# Altium footprint library 3PhaseMotorDriver.PcbLib: 26 footprints (part 2 of 2)
Each footprint in its own frame and in the unit in brackets; x right, y up, seen from the top. Pads: shape width x height; smd on the part's side, far side on the other; paste and mask are expansions set on the pad; w line width, h text height; cw(c..) or ccw(c..) is an arc to the next point about the centre after c.
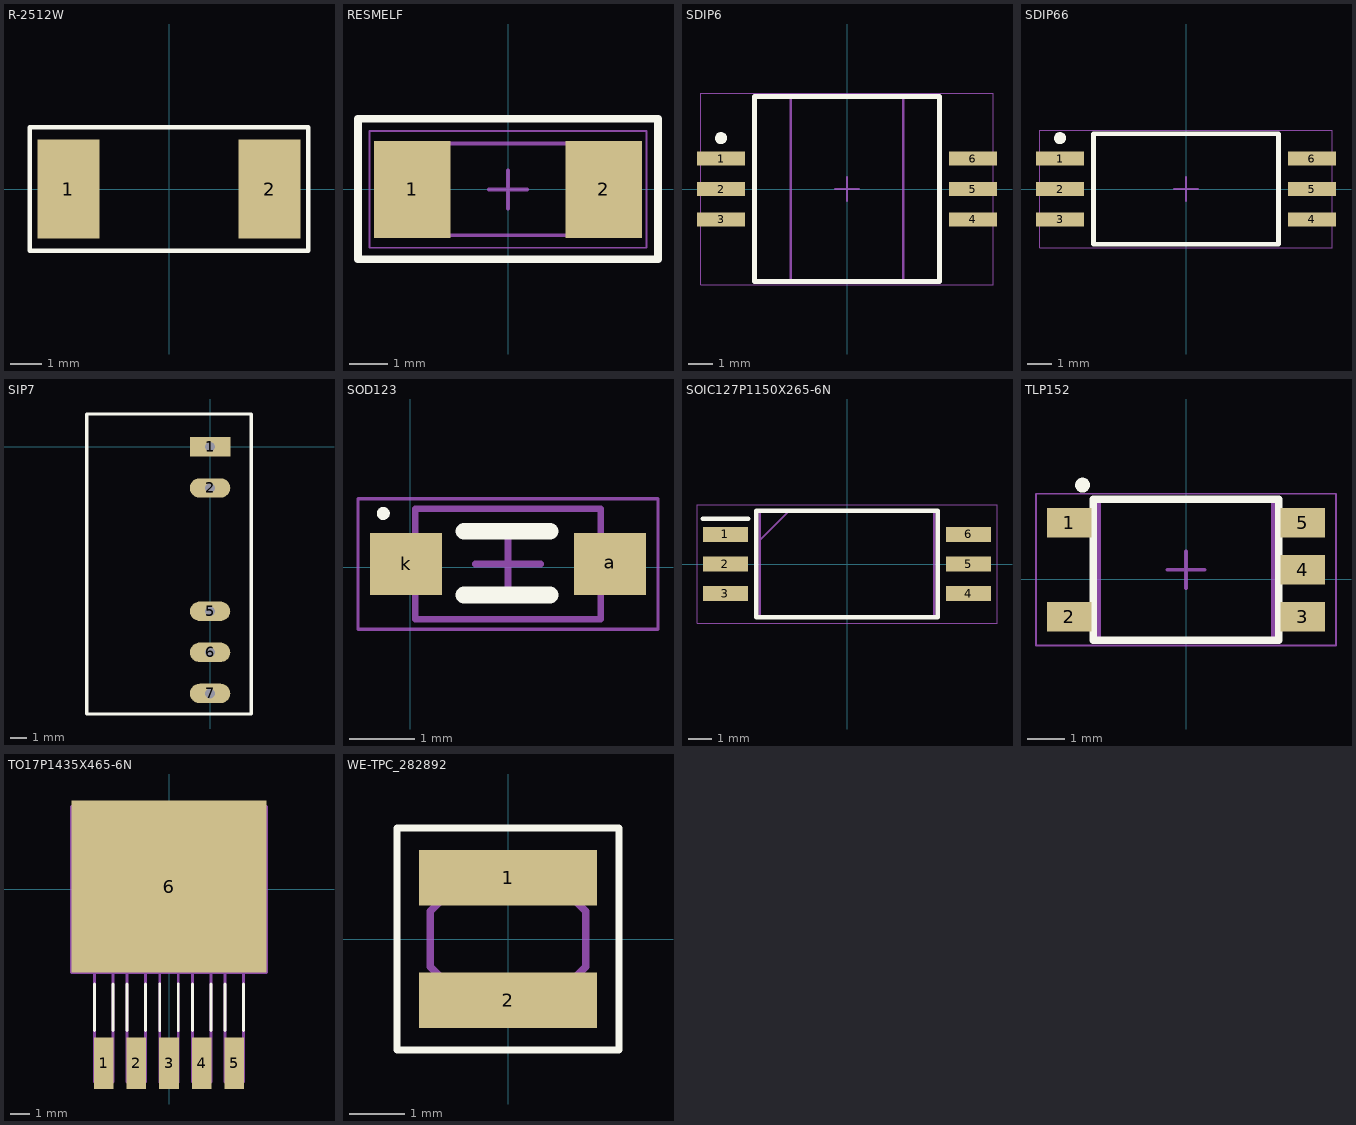
[diagram p1: the footprints below, top view; thin cyan lines are the x and y axes]

## R-2512W [mm] "resistor 2512 wave soldering"
pads (2):
  rect 2x3.2 smd: 1(-3.25,0) 2(3.25,0)
Top Overlay:
  lines w0.152: -4.5,-2 2.15,-2 4.5,-2 4.5,2 2.15,2 -4.5,2 -4.5,-2
3D body "res2512.stp": height 0.55, standoff 0, extent -3.15,-1.55 3.15,1.55

## RESMELF [mm] "MELF Resistor, 2-Leads, Body 5.85x2.30mm, IPC Medium Density"
height 2.4
pads (2):
  rect 2x2.55 smd: 1(-2.5,0) 2(2.5,0)
Top Overlay:
  lines w0.2: -3.925,-1.825 -3.925,1.85 -1.572,1.85 -0.191,1.85 2.082,1.85 ; -3.9,-1.825 -1.2,-1.825 3.925,-1.825 3.925,1.85 ; 2.082,1.85 3.925,1.85 ; 2.082,1.85 3.925,1.85
Top Assembly:
  lines w0.1: -2.95,-1.2 -2.95,1.2 2.95,1.2 2.95,-1.2 -2.95,-1.2
Top Courtyard:
  lines w0.05: -3.625,-1.525 -3.625,1.525 3.625,1.525 3.625,-1.525 -3.625,-1.525
  lines w0.1: -0.5,0 0.5,0 ; 0,-0.5 0,0.5
3D body: height 2.39, standoff 0, extent -2.95,-1.2 -2.4,1.195
3D body: height 2.39, standoff 0, extent 2.4,-1.2 2.95,1.195
3D body "User Library-MMB0207_102K.STEP": height 2.4, standoff 0, extent -2.9,-1.2 2.9,1.2

## SDIP6 [mm]
height 2.65
pads (6):
  rect 2x0.6 smd: 1(-5.25,1.27) 2(-5.25,0) 3(-5.25,-1.27) 4(5.25,-1.27) 5(5.25,0) 6(5.25,1.27)
Top Overlay:
  circle w0.25: c-5.25,2.12 r0.125
  lines w0.2: -3.85,-3.85 -3.85,3.85 3.85,3.85 3.85,-3.85 -3.85,-3.85
Top Assembly:
  lines w0.1: -2.35,-3.85 2.35,-3.85 2.35,3.85 -2.35,3.85 -2.35,-3.85
Top Courtyard:
  lines w0.05: -6.1,-4 6.1,-4 6.1,4 -6.1,4 -6.1,-4
  lines w0.1: -0.5,0 0.5,0 ; 0,-0.5 0,0.5
3D body: height 2.65, standoff 0, extent -2.35,-3.85 2.35,3.85

## SDIP66 [mm]
height 2.65
pads (6):
  rect 2x0.6 smd: 1(-5.25,1.27) 2(-5.25,0) 3(-5.25,-1.27) 4(5.25,-1.27) 5(5.25,0) 6(5.25,1.27)
Top Overlay:
  circle w0.25: c-5.25,2.12 r0.125
  lines w0.2: -3.85,-2.3 3.85,-2.3 3.85,2.3 -3.85,2.3 -3.85,-2.3
Top Assembly:
  lines w0.1: -3.85,-2.3 -3.85,2.3 3.85,2.3 3.85,-2.3 -3.85,-2.3
Top Courtyard:
  lines w0.05: -6.1,-2.45 -6.1,2.45 6.1,2.45 6.1,-2.45 -6.1,-2.45
  lines w0.1: -0.5,0 0.5,0 ; 0,-0.5 0,0.5
3D body: height 2.65, standoff 0, extent -3.85,-2.3 3.85,2.3

## SIP7 [mm]
pads (5):
  rect 2.5x1.2 hole 0.6: 1(0,0)
  oval 2.5x1.2 hole 0.6: 2(0,-2.54) 5(0,-10.16) 6(0,-12.7) 7(0,-15.24)
Top Overlay:
  lines w0.2: -7.616,-16.51 2.54,-16.51 2.54,2.032 -7.616,2.032 -7.616,-16.51
3D body "mps_dcdc_mgj2d_sc_a.step": height 11.66, standoff -4.94, extent -7.239,-17.243 2.581,2.257

## SOD123 [mm]
height 1.35
pads (2):
  rect 1.1x0.95 smd: a(3.063,0.05) k(-0.062,0.05)
Top Overlay:
  circle w0.1: c-0.412,0.825 r0.05
  lines w0.254: 0.825,-0.425 2.15,-0.425 ; 0.825,0.55 2.15,0.55
Top Assembly:
  lines w0.1: 0.075,-0.8 2.925,-0.8 2.925,0.9 0.075,0.9 0.075,-0.8
Top Courtyard:
  lines w0.05: -0.8,-0.95 3.8,-0.95 3.8,1.05 -0.8,1.05 -0.8,-0.95
  lines w0.1: 1,0.05 2,0.05 ; 1.5,-0.45 1.5,0.55
3D body "CircuitWorks-SOD123.STEP": height 1.28, standoff 0.01, extent -0.375,-0.775 3.325,0.825

## SOIC127P1150X265-6N [mm]
pads (6):
  rect 1.95x0.65 smd: 1(-5.225,1.27) 2(-5.225,0) 3(-5.225,-1.27) 4(5.225,-1.27) 5(5.225,0) 6(5.225,1.27)
Top Overlay:
  lines w0.2: -6.2,1.945 -4.25,1.945 ; -3.9,-2.29 3.9,-2.29 3.9,2.29 -3.9,2.29 -3.9,-2.29
Mechanical 13:
  lines w0.1: -3.75,1.02 -2.48,2.29 ; -3.75,-2.29 3.75,-2.29 3.75,2.29 -3.75,2.29 -3.75,-2.29
Mechanical 15:
  lines w0.05: -6.45,-2.54 6.45,-2.54 6.45,2.54 -6.45,2.54 -6.45,-2.54
3D body "Si8261ACD-C-IS.stp": height 2.65, standoff 0, extent -5.75,-2.29 5.75,2.29

## TLP152 [mm] "SOTFL, 5-Leads, Body 3.75x7.20mm, Pitch 1.27mm, IPC Medium Density"
height 2.2
pads (5):
  rect 1.2x0.8 smd: 1(-3.15,1.524) 2(-3.15,-1.016) 3(3.15,-1.016) 4(3.15,0.254) 5(3.15,1.524)
Top Overlay:
  lines w0.2: -2.5,-1.646 -2.5,2.154 2.5,2.154 2.5,-1.646 -2.5,-1.646
  lines w0.25: -2.72,2.538 cw(c-2.794,2.54) -2.72,2.547
Top Assembly:
  lines w0.1: -2.35,-1.646 2.35,-1.646 2.35,2.154 -2.35,2.154 -2.35,-1.646
Top Courtyard:
  lines w0.05: -4.05,-1.796 4.05,-1.796 4.05,2.304 -4.05,2.304 -4.05,-1.796
  lines w0.1: -0.5,0.254 0.5,0.254 ; 0,-0.246 0,0.754
3D body "User Library-TLP-152-1.STEP": height 2.11, standoff 0.01, extent -3.393,-1.651 3.383,2.149

## TO17P1435X465-6N [mil]
pads (6):
  rect 40x106 smd: 1(-134,-356) 2(-67,-356) 3(0,-356) 4(67,-356) 5(134,-356)
  rect 400x352 smd: 6(0,6)
Top Overlay:
  lines w6: -153,-289 -153,-194 ; -115,-289 -115,-194 ; -86,-289 -86,-194 ; -48,-289 -48,-194 ; -19,-289 -19,-194 ; 19,-289 19,-194 ; 48,-289 48,-194 ; 86,-289 86,-194 ; 115,-289 115,-194 ; 153,-289 153,-194
Mechanical 13:
  lines w6: -200,-170 200,-170 200,170 -200,170 -200,-170 ; -153,-395 -153,-170 -115,-170 -115,-395 -153,-395 ; -86,-395 -86,-170 -48,-170 -48,-395 -86,-395 ; -19,-395 -19,-170 19,-170 19,-395 -19,-395 ; 48,-395 48,-170 86,-170 86,-395 48,-395 ; 115,-395 115,-170 153,-170 153,-395 115,-395
3D body "LM2596SX-12--3DModel-STEP-56544.STEP": height 183.5, standoff -5.5, extent -200.98,-391.77 199.02,173.23

## WE-TPC_282892 [mm]
pads (2):
  rect 3.2x1 smd: 1(0,1.1) 2(0,-1.1)
Top Overlay:
  lines w0.127: -2,-2 2,-2 2,2 -2,2 -2,-2
Mechanical 13:
  lines w0.127: -1.4,-0.5 -1.4,0.5 -0.5,1.4 0.5,1.4 1.4,0.5 1.4,-0.5 0.5,-1.4 -0.5,-1.4 -1.4,-0.5
3D body "User Library-SDR0302.STEP": height 3, standoff 0, extent -1.575,-1.5 1.409,1.5